# EAGLE library part XC9572XLTQG100 (library xilinx_xc95XXXxl)
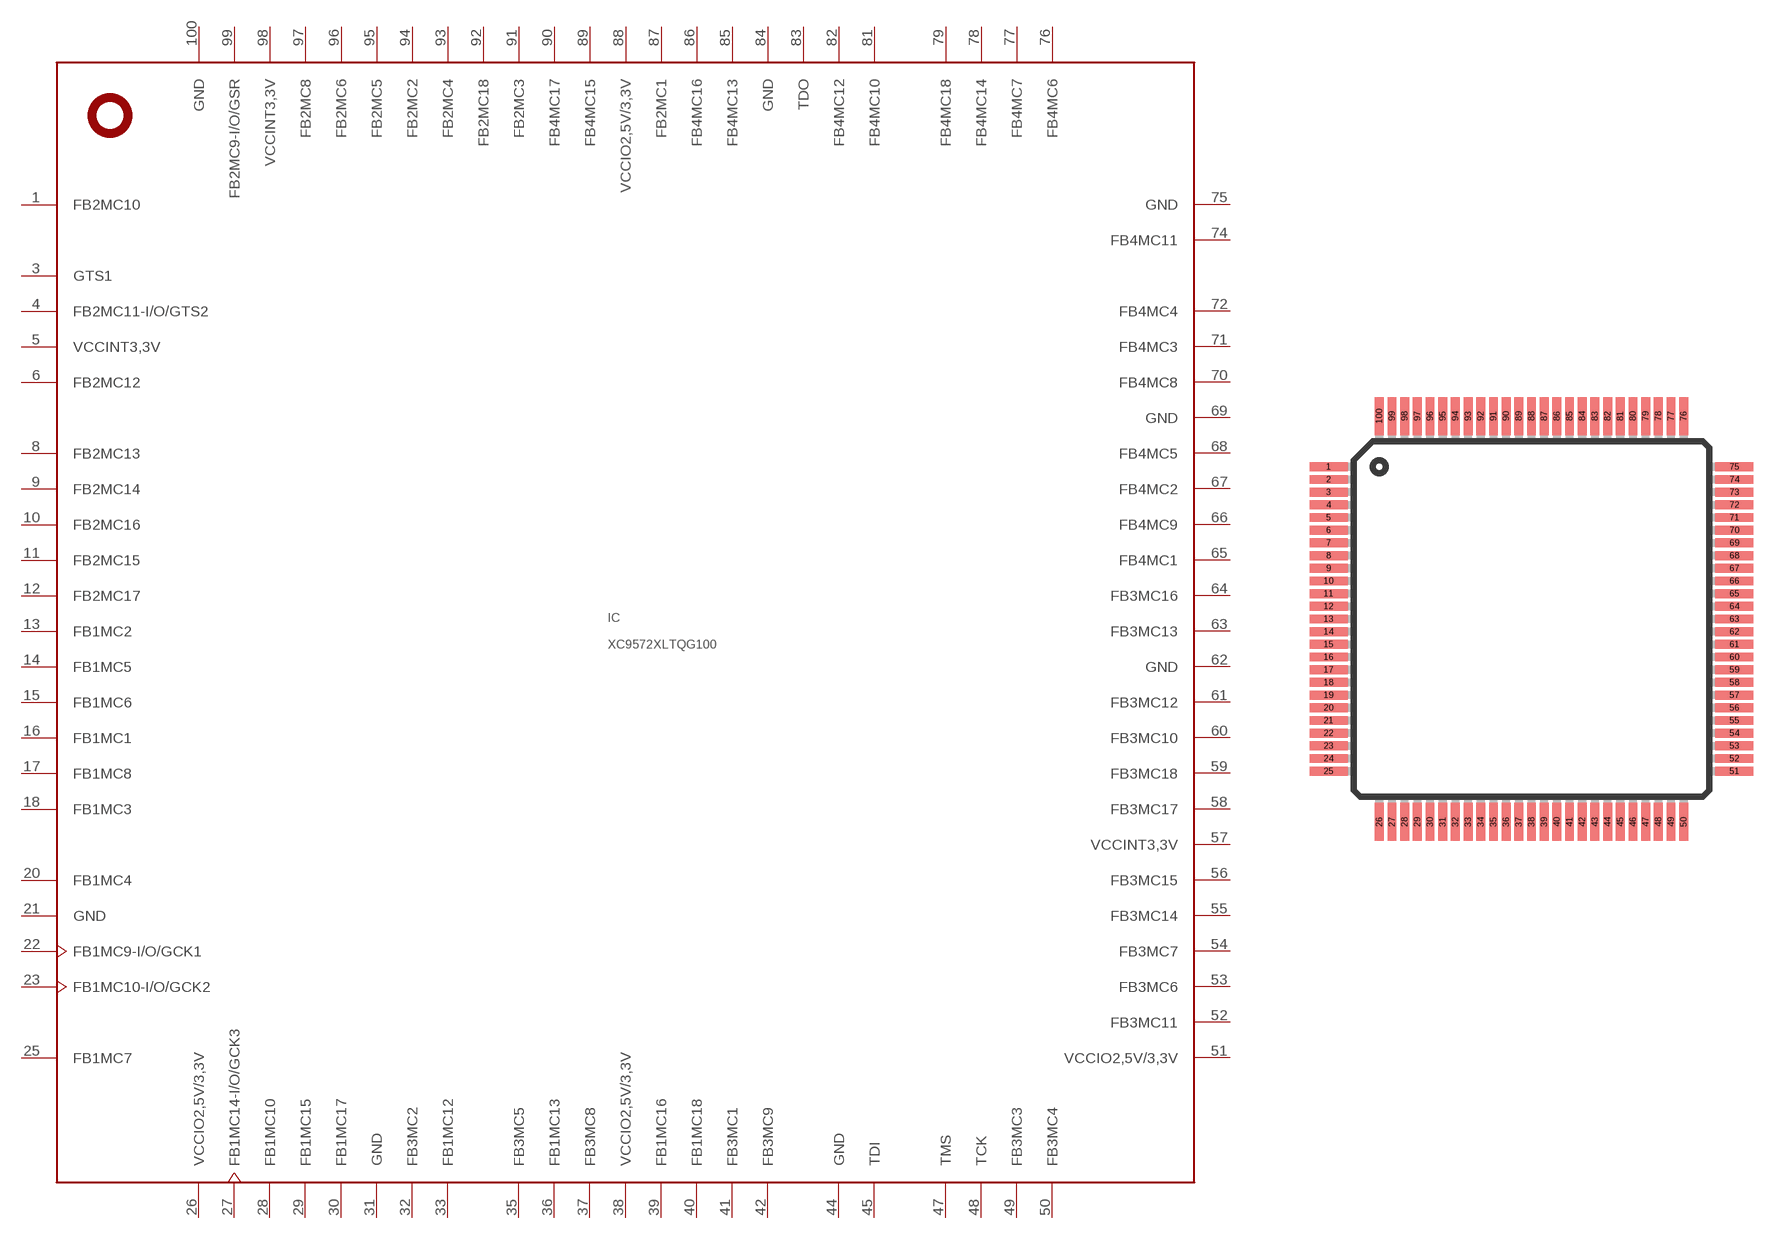
[diagram p0: symbol with the pads of TQFP100; footprint TQFP100]

Designator prefix IC

## XC9572XLTQG100  [TQFP100]
1  FB2MC10
3  GTS1
4  FB2MC11-I/O/GTS2
5  VCCINT3,3V  pwr
6  FB2MC12
8  FB2MC13
9  FB2MC14
10  FB2MC16
11  FB2MC15
12  FB2MC17
13  FB1MC2
14  FB1MC5
15  FB1MC6
16  FB1MC1
17  FB1MC8
18  FB1MC3
20  FB1MC4
21  GND  sup
22  FB1MC9-I/O/GCK1
23  FB1MC10-I/O/GCK2
25  FB1MC7
26  VCCIO2,5V/3,3V  pwr
27  FB1MC14-I/O/GCK3
28  FB1MC10
29  FB1MC15
30  FB1MC17
31  GND  sup
32  FB3MC2
33  FB1MC12
35  FB3MC5
36  FB1MC13
37  FB3MC8
38  VCCIO2,5V/3,3V  pwr
39  FB1MC16
40  FB1MC18
41  FB3MC1
42  FB3MC9
44  GND  sup
45  TDI
47  TMS
48  TCK
49  FB3MC3
50  FB3MC4
51  VCCIO2,5V/3,3V  pwr
52  FB3MC11
53  FB3MC6
54  FB3MC7
55  FB3MC14
56  FB3MC15
57  VCCINT3,3V  pwr
58  FB3MC17
59  FB3MC18
60  FB3MC10
61  FB3MC12
62  GND  sup
63  FB3MC13
64  FB3MC16
65  FB4MC1
66  FB4MC9
67  FB4MC2
68  FB4MC5
69  GND  sup
70  FB4MC8
71  FB4MC3
72  FB4MC4
74  FB4MC11
75  GND  sup
76  FB4MC6
77  FB4MC7
78  FB4MC14
79  FB4MC18
81  FB4MC10
82  FB4MC12
83  TDO
84  GND  sup
85  FB4MC13
86  FB4MC16
87  FB2MC1
88  VCCIO2,5V/3,3V  pwr
89  FB4MC15
90  FB4MC17
91  FB2MC3
92  FB2MC18
93  FB2MC4
94  FB2MC2
95  FB2MC5
96  FB2MC6
97  FB2MC8
98  VCCINT3,3V  pwr
99  FB2MC9-I/O/GSR
100  GND  sup

## Footprint TQFP100 (pad centres in mm)
smd 1.5 x 0.35: 1 -8,6; 2 -8,5.5; 3 -8,5; 4 -8,4.5; 5 -8,4; 6 -8,3.5; 7 -8,3; 8 -8,2.5; 9 -8,2; 10 -8,1.5; 11 -8,1; 12 -8,0.5; 13 -8,0; 14 -8,-0.5; 15 -8,-1; 16 -8,-1.5; 17 -8,-2; 18 -8,-2.5; 19 -8,-3; 20 -8,-3.5; 21 -8,-4; 22 -8,-4.5; 23 -8,-5; 24 -8,-5.5; 25 -8,-6; 51 8,-6; 52 8,-5.5; 53 8,-5; 54 8,-4.5; 55 8,-4; 56 8,-3.5; 57 8,-3; 58 8,-2.5; 59 8,-2; 60 8,-1.5; 61 8,-1; 62 8,-0.5; 63 8,0; 64 8,0.5; 65 8,1; 66 8,1.5; 67 8,2; 68 8,2.5; 69 8,3; 70 8,3.5; 71 8,4; 72 8,4.5; 73 8,5; 74 8,5.5; 75 8,6
smd 0.35 x 1.5: 26 -6,-8; 27 -5.5,-8; 28 -5,-8; 29 -4.5,-8; 30 -4,-8; 31 -3.5,-8; 32 -3,-8; 33 -2.5,-8; 34 -2,-8; 35 -1.5,-8; 36 -1,-8; 37 -0.5,-8; 38 0,-8; 39 0.5,-8; 40 1,-8; 41 1.5,-8; 42 2,-8; 43 2.5,-8; 44 3,-8; 45 3.5,-8; 46 4,-8; 47 4.5,-8; 48 5,-8; 49 5.5,-8; 50 6,-8; 76 6,8; 77 5.5,8; 78 5,8; 79 4.5,8; 80 4,8; 81 3.5,8; 82 3,8; 83 2.5,8; 84 2,8; 85 1.5,8; 86 1,8; 87 0.5,8; 88 0,8; 89 -0.5,8; 90 -1,8; 91 -1.5,8; 92 -2,8; 93 -2.5,8; 94 -3,8; 95 -3.5,8; 96 -4,8; 97 -4.5,8; 98 -5,8; 99 -5.5,8; 100 -6,8